# Altium footprint library iRat_2.0.PcbLib: 20 footprints (part 1 of 2)
Each footprint in its own frame and in the unit in brackets; x right, y up, seen from the top. Pads: shape width x height; smd on the part's side, far side on the other; paste and mask are expansions set on the pad; w line width, h text height; cw(c..) or ccw(c..) is an arc to the next point about the centre after c.
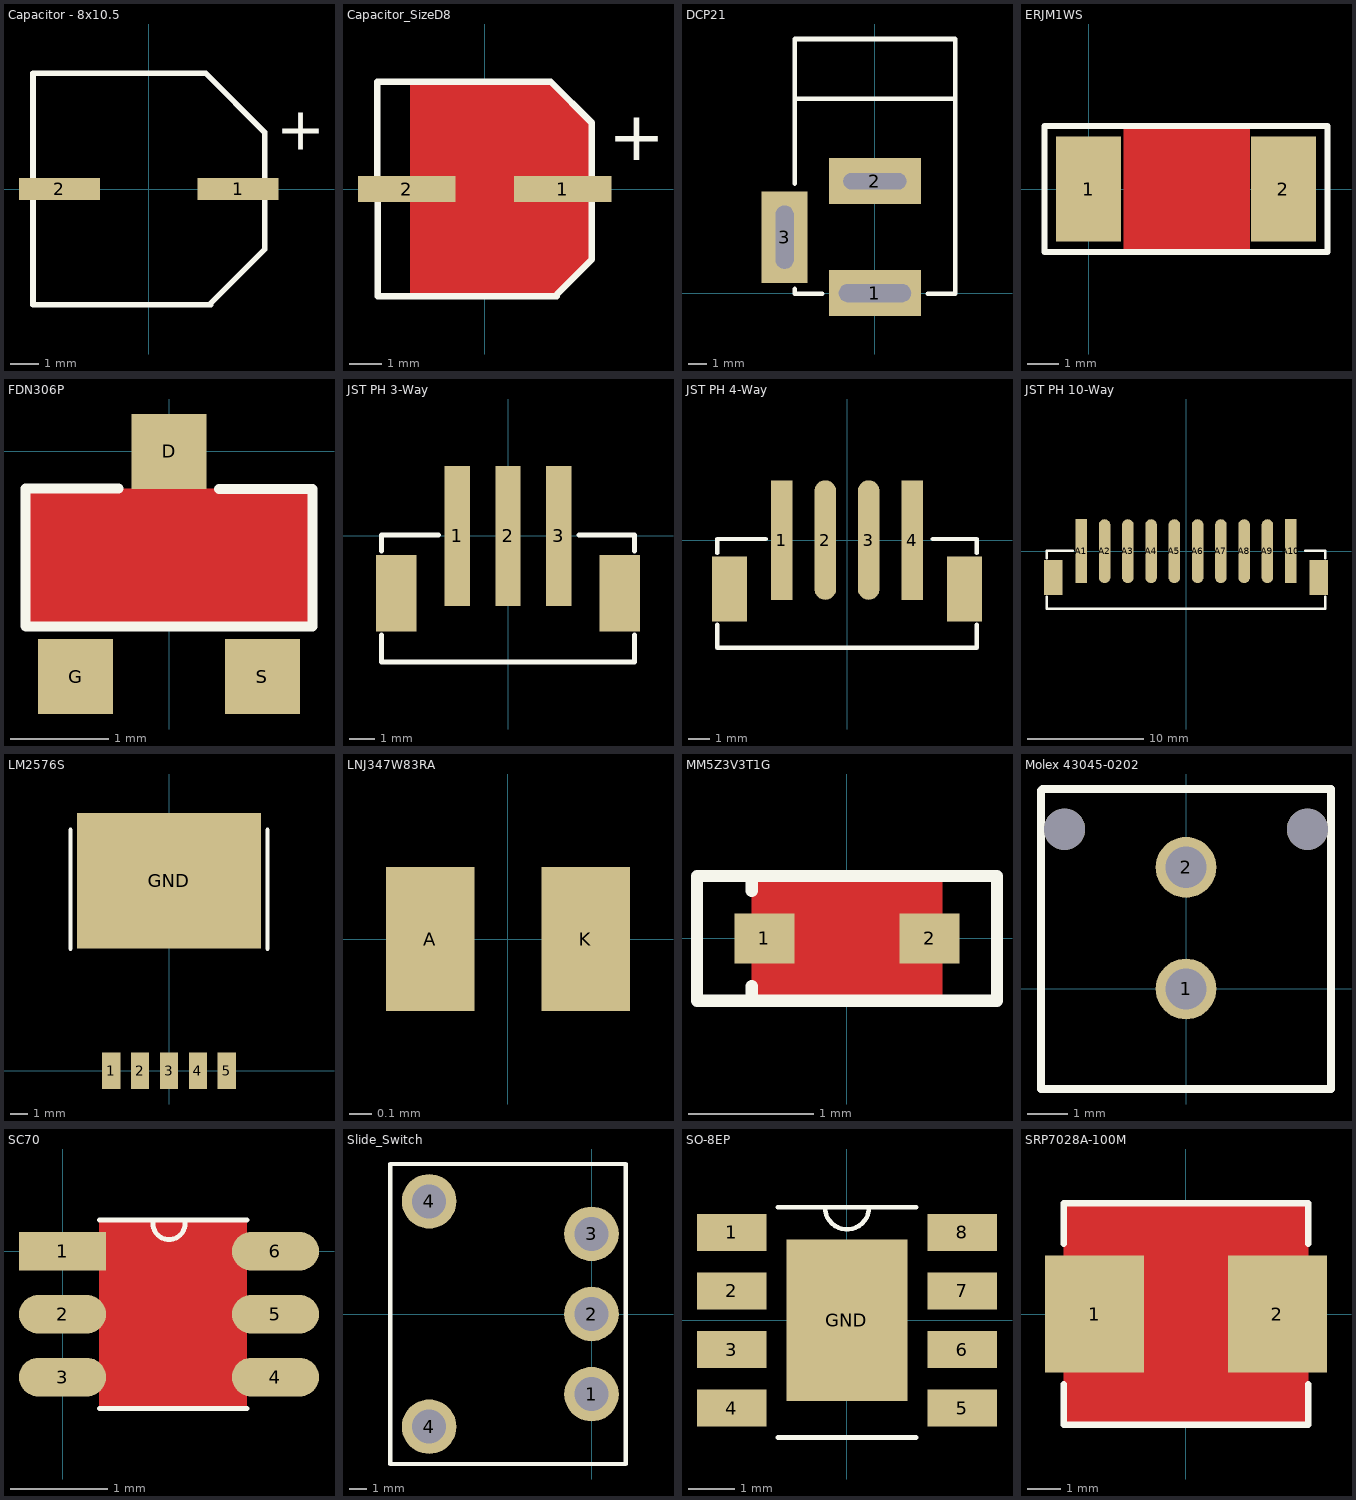
[diagram p0: the footprints below, top view; thin cyan lines are the x and y axes]

## Capacitor - 8x10.5 [mm] "470uF Cap for 5V reg"
pads (2):
  rect 2.9x0.8 smd: 1(3.2,0) 2(-3.2,0)
Top Overlay:
  lines w0.2: 2.188,-4.123 4.15,-2.161 4.15,2.034 ; 2.215,-4.15 -4.15,-4.15 -4.15,4.15 2.032,4.15 4.149,2.033
  text "+" at 4.572,1.397 h1.52

## Capacitor_SizeD8 [mm] "100uF EEEFKE101XAP"
pads (2):
  rect 3x0.8 smd: 1(2.4,0) 2(-2.4,0)
Top Layer:
  pour cut-out: -2.286,-3.3 2.215,-3.3 2.215,-3.246 3.3,-2.161 3.3,2.034 2.034,3.3 -2.286,3.3
Top Overlay:
  lines w0.2: 2.032,3.3 -3.302,3.3 -3.298,-3.3 2.215,-3.3 ; 2.032,3.302 3.3,2.034 3.3,-2.161 2.215,-3.246
  text "+" at 3.81,0.889 h1.52

## DCP21 [mm] "2.1mm DC Power Socket"
pads (3):
  rect 5.08x2.54 hole 1 slot 4 at 0 deg: 1(0,0)
  rect 5.08x2.54 hole 0.9 slot 3.5 at 0 deg: 2(0,6.2)
  rect 2.54x5.08 hole 1 slot 3.5 at 90 deg: 3(-5,3.1)
Top Overlay:
  lines w0.254: -4.445,0.231 -4.445,-0.023 -2.921,-0.023 ; -4.445,6.073 -4.445,14.074 4.445,14.074 4.445,-0.023 2.921,-0.023 ; -4.445,10.772 4.445,10.772

## ERJM1WS [mm] "6mOhm Shunt Resistor"
pads (2):
  rect 2.1x3.4 smd: 1(0,0) 2(6.3,0)
Top Layer:
  pour cut-out: 1.143,2.032 1.143,-2.032 5.207,-2.032 5.207,2.032
Top Overlay:
  lines w0.2: -1.422,-2.032 7.722,-2.032 7.722,2.032 -1.422,2.032 -1.422,-2.032

## FDN306P [mm]
pads (3):
  rect 0.76x0.76 smd: D(0,0) G(-0.95,-2.29) S(0.95,-2.29)
Top Layer:
  pour cut-out: -1.46,-0.378 -1.457,-0.381 1.46,-0.381 1.46,-1.781 1.457,-1.778 -1.46,-1.778
Top Overlay:
  lines w0.1: -1.46,-1.778 -1.46,-0.378 -0.511,-0.378 ; -1.457,-1.781 1.46,-1.781 1.46,-0.381 0.508,-0.381

## JST PH 3-Way [mm] "SMT Vertical"
pads (5):
  rect 1x5.5 smd: 1(-2,0) 2(0,0) 3(2,0)
  rect 1.6x3 smd: ""(-4.4,-2.25) ""(4.4,-2.25)
Top Overlay:
  lines w0.2: -4.975,-3.9 -4.975,-4.953 4.975,-4.953 4.975,-3.9 ; -4.975,-0.598 -4.975,0.047 -3.24,0.047 -2.732,0.047 ; 2.794,0.047 4.975,0.047 4.975,-0.598

## JST PH 4-Way [mm] "SMT Vertical"
pads (6):
  rect 1x5.5 smd: 1(-3,0) 4(3,0)
  oval 1x5.5 smd: 2(-1,0) 3(1,0)
  rect 1.6x3 smd: ""(-5.4,-2.25) ""(5.4,-2.25)
Top Overlay:
  lines w0.2: -5.975,-3.9 -5.975,-4.953 5.975,-4.953 5.975,-3.9 ; -5.975,-0.598 -5.975,0.047 -4.24,0.047 -3.732,0.047 ; 3.937,0.047 5.975,0.047 5.975,-0.598

## JST PH 10-Way [mm] "SMT Vertical"
pads (12):
  rect 1x5.5 smd: A1(-9,0) A10(9,0)
  oval 1x5.5 smd: A2(-7,0) A3(-5,0) A4(-3,0) A5(-1,0) A6(1,0) A7(3,0) A8(5,0) A9(7,0)
  rect 1.6x3 smd: ""(-11.4,-2.25) ""(11.4,-2.25)
Top Overlay:
  lines w0.2: -11.975,-3.9 -11.975,-4.953 11.975,-4.953 11.975,-3.9 ; -11.975,-0.598 -11.975,0.047 -10.24,0.047 -9.732,0.047 ; 10.24,0.047 11.975,0.047 11.975,-0.598

## LM2576S [mm]
pads (6):
  rect 1.07x2.16 smd: 1(-3.4,0) 2(-1.7,0) 3(0,0) 4(1.7,0) 5(3.4,0)
  rect 10.8x8 smd: GND(0,11.175)
Top Overlay:
  lines w0.254: -5.8,7.18 -5.8,14.17 ; 5.8,7.18 5.8,14.17
  text "." at -3.429,-1.778 h1.52

## LNJ347W83RA [mm]
pads (2):
  rect 0.4x0.65 smd: A(-0.35,0) K(0.35,0)
Top Overlay:
  text "." at -0.381,-0.762 h0.5

## MM5Z3V3T1G [mm]
pads (2):
  rect 0.48x0.4 smd: 1(-0.66,0) 2(0.66,0)
Top Layer:
  pour cut-out: -0.762,0.5 -0.762,-0.5 0.762,-0.508 0.762,0.5
Top Overlay:
  lines w0.1: -0.762,-0.5 -0.762,-0.381 ; -0.762,0.381 -0.762,0.5 ; -1.2,-0.5 -1.2,0 -1.2,0.5 1.2,0.5 1.2,-0.5 -1.2,-0.5

## Molex 43045-0202 [mm] "Battery Connector"
pads (4):
  round 1.5 hole 1.02: 1(0,0) 2(0,3)
  round 1.02 hole 1.02 unplated: ""(-3,3.94) ""(3,3.94)
Top Overlay:
  lines w0.2: -3.575,4.9 -3.575,-2.47 3.575,-2.47 3.575,4.934 -3.541,4.934

## SC70 [mm] "Current Sense Comparator"
pads (6):
  rect 0.9x0.4 smd: 1(0,0)
  oval 0.9x0.4 smd: 2(0,-0.65) 3(0,-1.3) 4(2.2,-1.3) 5(2.2,-0.65) 6(2.2,0)
Top Layer:
  pour cut-out: 0.381,0.325 0.381,-1.625 1.905,-1.625 1.905,0.325
Top Overlay:
  lines w0.05: 0.381,-1.625 1.905,-1.625 ; 0.381,0.325 1.262,0.325 cw(c1.1,0.288) 0.938,0.325 1.905,0.325
  text "." at -1.016,0 h1

## Slide_Switch [mm]
pads (5):
  round 3.2 hole 2: 1(0,-4.7) 2(0,0) 3(0,4.7) 4(-9.53,-6.61) 4(-9.53,6.61)
Top Overlay:
  lines w0.254: -11.8,8.763 -11.8,-8.8 2,-8.8 2,8.8 -11.8,8.8
  text "." at -0.127,-7.239 h1.52

## SO-8EP [mm]
pads (9):
  rect 1.505x0.802 smd: 1(-2.497,1.905) 2(-2.497,0.635) 3(-2.497,-0.635) 4(-2.497,-1.905) 5(2.498,-1.905) 6(2.498,-0.635) 7(2.498,0.635) 8(2.498,1.905)
  rect 2.613x3.502 smd: GND(0,0)
Top Overlay:
  lines w0.1: -1.5,-2.54 1.5,-2.54 ; -1.5,2.45 1.5,2.45 ; -0.479,2.45 ccw(c0,2.45) 0.479,2.45
  text "." at -3.937,1.778 h1.52

## SRP7028A-100M [mm] "10uH Inductor"
pads (2):
  rect 2.95x3.5 smd: 1(-2.725,0) 2(2.725,0)
Top Layer:
  pour cut-out: -3.65,3.3 3.65,3.3 3.65,-3.3 -3.65,-3.3
Top Overlay:
  lines w0.2: -3.65,-2.1 -3.65,-3.3 3.65,-3.3 3.65,-2.1 ; -3.65,2.1 -3.65,3.3 3.65,3.3 3.65,2.1